# Altium schematic symbol library Modules.SchLib: 17 symbols
Pins are listed as number, name and electrical type; pins without a type are passive.

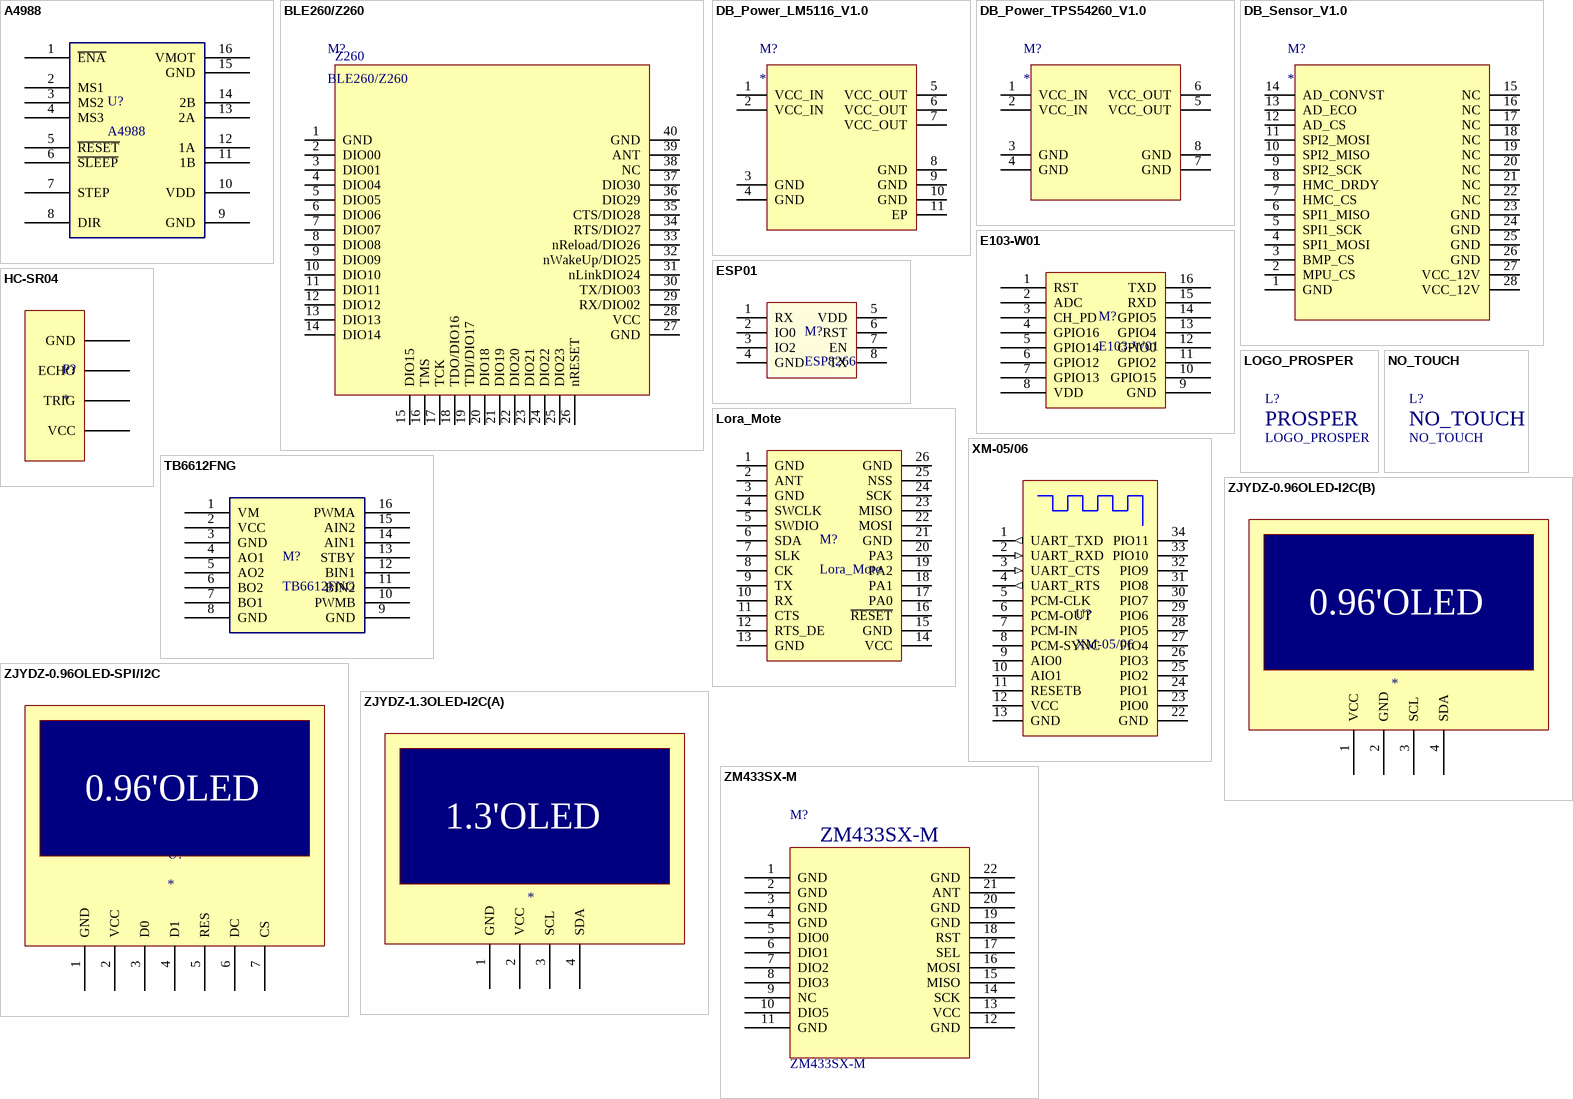
[diagram p0: symbols A4988 to ZM433SX-M]

## A4988
designator U?
A4988 Stepper Motor Driver Carrier board, DMOS Microstepping Driver with Translator and Overcurrent Protection
footprint A4988转接
footprint A4988_Module (A4988 Stepper Motor Driver Carrier board, DMOS Microstepping Driver with Translator and Overcurrent Protection)
pins: 1 ~{ENA}, 2 MS1, 3 MS2, 4 MS3, 5 ~{RESET}, 6 ~{SLEEP}, 7 STEP, 8 DIR, 9 GND, 10 VDD, 11 1B, 12 1A, 13 2A, 14 2B, 15 GND, 16 VMOT

## BLE260/Z260
designator M?  Part Value: Z260
CC2630/40 Module; Manufacturer: Ghostyu; Part Number: Z260
footprint Z260
pins: 1 GND, 2 DIO00, 3 DIO01, 4 DIO04, 5 DIO05, 6 DIO06, 7 DIO07, 8 DIO08, 9 DIO09, 10 DIO10, 11 DIO11, 12 DIO12, 13 DIO13, 14 DIO14, 15 DIO15, 16 TMS, 17 TCK, 18 TDO/DIO16, 19 TDI/DIO17, 20 DIO18, 21 DIO19, 22 DIO20, 23 DIO21, 24 DIO22, 25 DIO23, 26 nRESET, 27 GND, 28 VCC, 29 RX/DIO02, 30 TX/DIO03, 31 nLinkDIO24, 32 nWakeUp/DIO25, 33 nReload/DIO26, 34 RTS/DIO27, 35 CTS/DIO28, 36 DIO29, 37 DIO30, 38 NC, 39 ANT, 40 GND

## DB_Power_LM5116_V1.0
designator M?
footprint DB_POWER_LM5116_V1.0
pins: 1 VCC_IN, 2 VCC_IN, 3 GND, 4 GND, 5 VCC_OUT, 6 VCC_OUT, 7 VCC_OUT, 8 GND, 9 GND, 10 GND, 11 EP

## DB_Power_TPS54260_V1.0
designator M?
footprint DB_POWER_TPS54260_V1.0
pins: 1 VCC_IN, 2 VCC_IN, 3 GND, 4 GND, 5 VCC_OUT, 6 VCC_OUT, 7 GND, 8 GND

## DB_Sensor_V1.0
designator M?
footprint DB_Sensor_V1.0
pins: 1 GND, 2 MPU_CS, 3 BMP_CS, 4 SPI1_MOSI, 5 SPI1_SCK, 6 SPI1_MISO, 7 HMC_CS, 8 HMC_DRDY, 9 SPI2_SCK, 10 SPI2_MISO, 11 SPI2_MOSI, 12 AD_CS, 13 AD_ECO, 14 AD_CONVST, 15 NC, 16 NC, 17 NC, 18 NC, 19 NC, 20 NC, 21 NC, 22 NC, 23 GND, 24 GND, 25 GND, 26 GND, 27 VCC_12V, 28 VCC_12V

## E103-W01
designator M?
ESP8266串口WiFi模块 成都亿佰特
footprint E103_W01
pins: 1 RST, 2 ADC, 3 CH_PD, 4 GPIO16, 5 GPIO14, 6 GPIO12, 7 GPIO13, 8 VDD, 9 GND, 10 GPIO15, 11 GPIO2, 12 GPIO0, 13 GPIO4, 14 GPIO5, 15 RXD, 16 TXD

## ESP01
designator M?, comment ESP8266
ESP8266 WIFI模块 无线收发模块 串口远距离
footprint ESP01 (ESP8266 WIFI模块)
pins: 1 RX, 2 IO0, 3 IO2, 4 GND, 5 VDD, 6 RST, 7 EN, 8 TX

## HC-SR04
designator P?
footprint HC-SR04 (Ultrasonic module HC-SR04, 2.54mm Pitch, 3Pin, single row, stand off hight:2.4mm)
pins: 1 GND (power), 2 ECHO, 3 TRIG, 4 VCC (power)

## LOGO_PROSPER
designator L?
footprint PROSPER_0.4
footprint PROSPER_1.0
footprint PROSPER_0.2 (Footprint not found)
footprint PROSPER_0.5 (Footprint not found)
footprint LOGO_PROSPER_0.6
text: PROSPER

## Lora_Mote
designator M?
footprint Lora_Mote
pins: 1 GND, 2 ANT, 3 GND, 4 SWCLK, 5 SWDIO, 6 SDA, 7 SLK, 8 CK, 9 TX, 10 RX, 11 CTS, 12 RTS_DE, 13 GND, 14 VCC, 15 GND, 16 ~{RESET}, 17 PA0, 18 PA1, 19 PA2, 20 PA3, 21 GND, 22 MOSI, 23 MISO, 24 SCK, 25 NSS, 26 GND

## NO_TOUCH
designator L?
footprint NO_TOUCH_0.4
footprint NO_TOUCH2_0.6

## TB6612FNG
designator M?
Driver IC for Dual DC motor
footprint TB6612FNG
pins: 1 VM, 2 VCC, 3 GND, 4 AO1, 5 AO2, 6 BO2, 7 BO1, 8 GND, 9 GND, 10 PWMB, 11 BIN2, 12 BIN1, 13 STBY, 14 AIN1, 15 AIN2, 16 PWMA

## XM-05/06
designator U?
footprint XM-05 (26 pin 1.5mm bluetooth module)
pins: 1 UART_TXD (out), 2 UART_RXD (in), 3 UART_CTS (in), 4 UART_RTS (out), 5 PCM-CLK, 6 PCM-OUT, 7 PCM-IN, 8 PCM-SYNC, 9 AIO0, 10 AIO1, 11 RESETB, 12 VCC (power), 13 GND, 22 GND, 23 PIO0, 24 PIO1, 25 PIO2, 26 PIO3, 27 PIO4, 28 PIO5, 29 PIO6, 30 PIO7, 31 PIO8, 32 PIO9, 33 PIO10, 34 PIO11

## ZJYDZ-0.96OLED-I2C(B)
designator U?
footprint ZJYDZ-0.96OLED-I2C(B)-254P278X273-4N
footprint ZJYDZ-0.96OLED-I2C(B)-254P278X273-4N_+5 (中景园0.96“OLED,I2C(B),5mmPCB隔离柱)
pins: 1 VCC (power), 2 GND (power), 3 SCL, 4 SDA
text: 0.96'OLED

## ZJYDZ-0.96OLED-SPI/I2C
designator U?
footprint ZJYDZ-0.96OLED-SPI/I2C-254P278X273-7N
pins: 1 GND, 2 VCC, 3 D0, 4 D1, 5 RES, 6 DC, 7 CS
text: 0.96'OLED

## ZJYDZ-1.3OLED-I2C(A)
designator U?
footprint ZJYDZ-1.3OLED-I2C(A)-254P335X354-4N
pins: 1 GND (power), 2 VCC (power), 3 SCL, 4 SDA
text: 1.3'OLED

## ZM433SX-M
designator M?
Wireless model
footprint ZM433SX-M
pins: 1 GND, 2 GND, 3 GND, 4 GND, 5 DIO0, 6 DIO1, 7 DIO2, 8 DIO3, 9 NC, 10 DIO5, 11 GND, 12 GND, 13 VCC, 14 SCK, 15 MISO, 16 MOSI, 17 SEL, 18 RST, 19 GND, 20 GND, 21 ANT, 22 GND